# EAGLE library part 621X1021821 (library Wurth_Elektronik_Electromechanic_Board_to_Board_Connectors_rev16a)
WR-PHD 2.00mm Dual SMT Socket Header Low Profile, 10 Pins=>Code : Con_BTB_SHD_2.00_2_621x1021821(Packaging:x = 0: Tube x = 3: Tape & Reel with Cap) <http://katalog.we-online.de/media/thumbs2/eican/thb_Con_BTB_SHD_2.00_2_6210xx21821_pf2.jpg> 6210xx21821 Details see: http://katalog.we-online.de/en/em/621_0xx_218_21 6213xx21821 Details see: http://katalog.we-online.de/en/em/PHD_2_0_SMT_DUAL_SOCKET_HEADER_LOW_PROFILE_REEL_6213XX21821 2014 (C) Würth Elektronik 2014 (C) Würth Elektronik
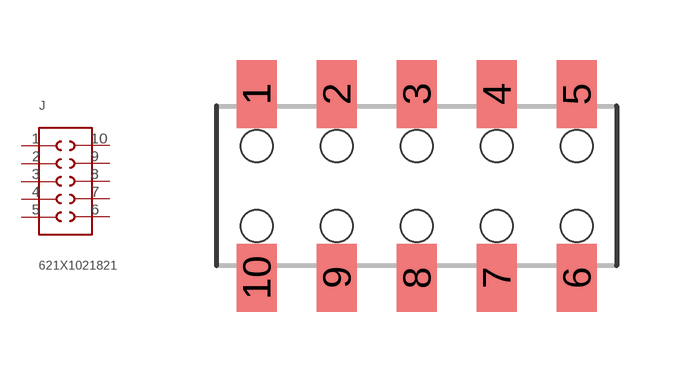
[diagram p277: symbol with the pads of 621X1021821; footprint 621X1021821]

Designator prefix J

## 621X1021821  [621X1021821]
1  1  pas
2  2  pas
3  3  pas
4  4  pas
5  5  pas
6  6  pas
7  7  pas
8  8  pas
9  9  pas
10  10  pas

## Footprint 621X1021821 (pad centres in mm)
WR-PHD 2.00mm Dual SMT Socket Header Low Profile, 10 Pins
smd 1 x 1.7: 1 -4,2.3; 2 -2,2.3; 3 0,2.3; 4 2,2.3; 5 4,2.3; 6 4,-2.3; 7 2,-2.3; 8 0,-2.3; 9 -2,-2.3; 10 -4,-2.3
hole 0.8 at -2,1
hole 0.8 at -4,1
hole 0.8 at -4,-1
hole 0.8 at -2,-1
hole 0.8 at 0,1
hole 0.8 at 0,-1
hole 0.8 at 2,1
hole 0.8 at 4,1
hole 0.8 at 4,-1
hole 0.8 at 2,-1